# Altium schematic symbol library Schlib1.SchLib: 36 symbols
Pins are listed as number, name and electrical type; pins without a type are passive.

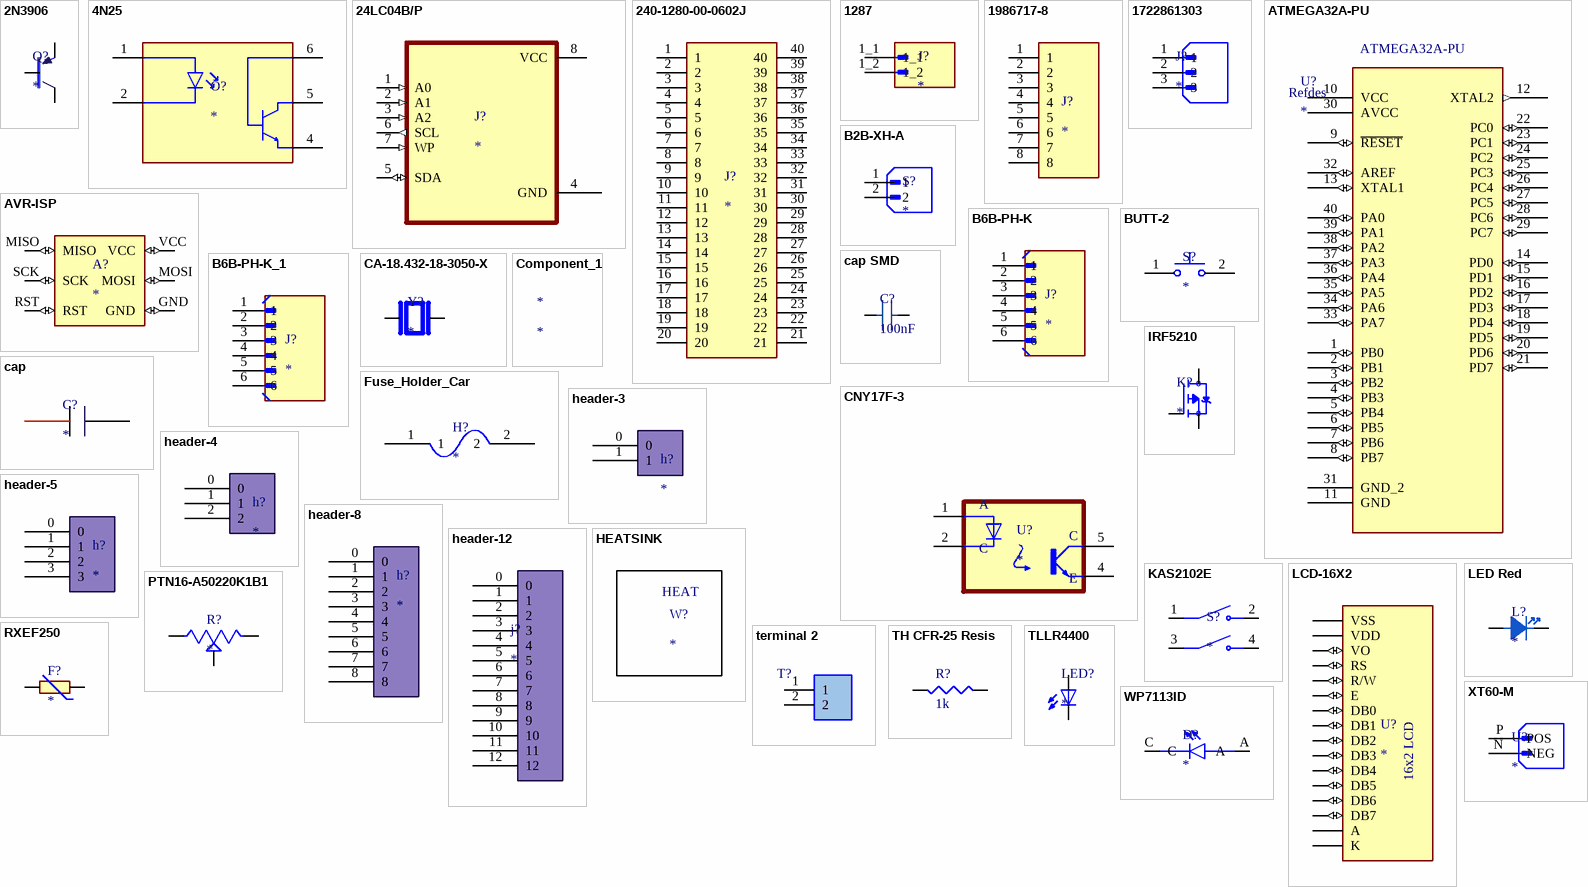
[diagram p0: symbols 2N3906 to XT60-M]

## 2N3906
designator Q?
BJT, TO-92, 40V, 200mA, PNP, 0.625W, 150Â°C; MF: Diotec Semiconductor; MP: 2N3906; SnapEDA_Link: https://www.snapeda.com/parts/2N3906/Diotec/view-part/?ref=snap; Package: TO-92 Diotec; Value: *; Check_prices: https://www.snapeda.com/parts/2N3906/Diotec/view-part/?ref=eda
footprint 2N3906
pins: 1 E, 2 B, 3 C

## 4N25
designator O?
Optoisolator, Analog, 6-Pin DIP, Transistor, w/Base Connection | Vishay / Small Signal & Opto Products (SSP) 4N25; MF: Vishay Semiconductor; SnapEDA_Link: https://www.snapeda.com/parts/4N25/Vishay/view-part/?ref=snap; Package: DIP-6 Everlight Electronics CO., LTD; Value: *; MP: 4N25; Check_prices: https://www.snapeda.com/parts/4N25/Vishay/view-part/?ref=eda
footprint DIP762W50P254L712H400Q6N
pins: 1 A, 2 K, 4 E, 5 C, 6 B

## 24LC04B/P
designator J?
4K, 512 X 8 2.5V SERIAL EEPROM | Microchip Technology Inc. 24LC04B/P; SnapEDA_Link: https://www.snapeda.com/parts/24LC04B/P/Microchip+Technology/view-part/?ref=snap; Package: DIP-8 Microchip; Value: *; MF: Microchip; MP: 24LC04B/P; Check_prices: https://www.snapeda.com/parts/24LC04B/P/Microchip+Technology/view-part/?ref=eda
footprint DIP787W46P254L927H533Q8
pins: 1 A0 (in), 2 A1 (in), 3 A2 (in), 4 GND, 5 SDA (io), 6 SCL (out), 7 WP (in), 8 VCC (power)

## 240-1280-00-0602J
designator J?
40 (2 x 20) Pos DIP, ZIF (ZIP), 0.6 (15.24mm) Row Spacing Socket Gold Connector; MF: 3M; MP: 240-1280-00-0602J; SnapEDA_Link: https://www.snapeda.com/parts/240-1280-00-0602J/3M+%2528TC%2529/view-part/?ref=snap; Package: NON STANDARD-40 3M; Value: *; Check_prices: https://www.snapeda.com/parts/240-1280-00-0602J/3M+%2528TC%2529/view-part/?ref=eda
footprint 3M_240-1280-00-0602J
pins: 1, 2, 3, 4, 5, 6, 7, 8, 9, 10, 11, 12, 13, 14, 15, 16, 17, 18, 19, 20, 21, 22, 23, 24, 25, 26, 27, 28, 29, 30, 31, 32, 33, 34, 35, 36, 37, 38, 39, 40

## 1287
designator J?
Male .250 Quick Fit Terminal; MF: Keystone Electronics Corp.; MP: 1287; SnapEDA_Link: https://www.snapeda.com/parts/1287/Keystone/view-part/?ref=snap; Package: None; Value: *; Check_prices: https://www.snapeda.com/parts/1287/Keystone/view-part/?ref=eda
footprint KEYSTONE_1287
pins: 1_1, 1_2

## 1986717-8
designator J?
8 Position Terminal Block Header, Male Pins, Unshrouded 0.138 (3.50mm) Vertical - Through Hole; Number_of_Positions: 8; MF: TE Connectivity; MP: 1986717-8; Centerline_Pitch: 3.5 mm[.138 in]; SnapEDA_Link: https://www.snapeda.com/parts/1986717-8/TE+Connectivity+AMP+Connectors/view-part/?ref=snap; Package: None; Value: *; Check_prices: https://www.snapeda.com/parts/1986717-8/TE+Connectivity+AMP+Connectors/view-part/?ref=eda
footprint TE_1986717-8
pins: 1, 2, 3, 4, 5, 6, 7, 8

## 1722861303
designator J?
MP: 1722861303; Availability: Unavailable; Value: *; Price: None; Package: None
footprint MOLEX_1722861303
pins: 1, 2, 3

## ATMEGA32A-PU
designator U?
AVR AVRÂ® ATmega Microcontroller IC 8-Bit 16MHz 32KB (16K x 16) FLASH 40-PDIP; MF: Microchip; MP: ATMEGA32A-PU; SnapEDA_Link: https://www.snapeda.com/parts/ATMEGA32A-PU/Microchip/view-part/?ref=snap; Package: PDIP-40 Microchip; Value: *; Check_prices: https://www.snapeda.com/parts/ATMEGA32A-PU/Microchip/view-part/?ref=eda
footprint 3M_240-1280-00-0602J
pins: 1 PB0 (io), 2 PB1 (io), 3 PB2 (io), 4 PB3 (io), 5 PB4 (io), 6 PB5 (io), 7 PB6 (io), 8 PB7 (io), 9 ~{RESET} (io), 10 VCC (power), 11 GND, 12 XTAL2 (out), 13 XTAL1 (io), 14 PD0 (io), 15 PD1 (io), 16 PD2 (io), 17 PD3 (io), 18 PD4 (io), 19 PD5 (io), 20 PD6 (io), 21 PD7 (io), 22 PC0 (io), 23 PC1 (io), 24 PC2 (io), 25 PC3 (io), 26 PC4 (io), 27 PC5 (io), 28 PC6 (io), 29 PC7 (io), 30 AVCC (power), 31 GND_2, 32 AREF (io), 33 PA7 (io), 34 PA6 (io), 35 PA5 (io), 36 PA4 (io), 37 PA3 (io), 38 PA2 (io), 39 PA1 (io), 40 PA0 (io)
text: Refdes

## AVR-ISP
designator A?
Emulators / Simulators AVR USB IN CIRCUIT EMUL/PRGMR ISP; MP: AVR-ISP; MF: Gravitech; SnapEDA_Link: https://www.snapeda.com/parts/AVR-ISP/Gravitech/view-part/4593377/?ref=snap; Availability: Unavailable; Price: None; Value: *; Package: None
footprint AVR-ISP
pins: GND (io), MISO (io), MOSI (io), RST (io), SCK (io), VCC (io)

## B2B-XH-A
designator S?
MF: {'manufacturer': u'JST Sales America Inc.'}; MP: B2B-XH-A; Package: None; Price: None; Value: *; Availability: Unavailable
footprint JST
pins: 1, 2

## B6B-PH-K
designator J?
Conn Shrouded Header (4 Sides) HDR 6 POS 2mm Solder ST Top Entry Thru-Hole Box; MF: JST Corporation; MP: B6B-PH-K; SnapEDA_Link: https://www.snapeda.com/parts/B6B-PH-K/JST/view-part/?ref=snap; Package: None; Value: *; Check_prices: https://www.snapeda.com/parts/B6B-PH-K/JST/view-part/?ref=eda
footprint JST_B6B-PH-K
pins: 1, 2, 3, 4, 5, 6

## B6B-PH-K_1
designator J?
Conn Shrouded Header (4 Sides) HDR 6 POS 2mm Solder ST Top Entry Thru-Hole Box; MF: JST Corporation; MP: B6B-PH-K; SnapEDA_Link: https://www.snapeda.com/parts/B6B-PH-K/JST/view-part/?ref=snap; Package: None; Value: *; Check_prices: https://www.snapeda.com/parts/B6B-PH-K/JST/view-part/?ref=eda
footprint JST_B6B-PH-K
pins: 1, 2, 3, 4, 5, 6

## BUTT-2
designator S?
Tactile Switches MINI PUSH BUTTON SWITCH 2-PIN QTY. 4; MF: Gravitech; MP: BUTT-2; SnapEDA_Link: https://www.snapeda.com/parts/BUTT-2/Gravitech/view-part/?ref=snap; Package: None; Value: *; Check_prices: https://www.snapeda.com/parts/BUTT-2/Gravitech/view-part/?ref=eda
footprint SW_BUTT-2
pins: 1, 2

## CA-18.432-18-3050-X
designator Y?
Quartz Crystal, HC-49/U-S Short Package; MF: Aker; MP: CA-18.432-18-3050-X; SnapEDA_Link: https://www.snapeda.com/parts/CA-18.432-18-3050-X/Aker/view-part/?ref=snap; Package: None; Value: *; Check_prices: https://www.snapeda.com/parts/CA-18.432-18-3050-X/Aker/view-part/?ref=eda
footprint XTAL_CA-18.432-18-3050-X
pins: 1, 2

## cap
designator C?
footprint cap
pins: 1, 2

## cap SMD
designator C?, comment 100nF
Manufacturer 1: KEMET; Manufacturer Part Number 1: C330C104J2H5TA91707301; Tolerance: 5%; Voltage Rating: 200V; Lead/Base Style: Straight; Supplier 1: Digi-Key; Stock 1: 1003; Pricing 1: 1=0.64000, 10=0.45000, 50=0.34000, 100=0.29620, 500=0.21940 (USD); RoHS: No; Mount: Through Hole; Case/Package: Radial; Min Operating Temperature: -55°C; Max Operating Temperature: 150°C; Features: High Temperature; Packaging: Cut Tape; Capacitance: 100nF; Ratings: AEC-Q200; ComponentLink1URL: https://api.kemet.com/component-edge/download/datasheet/C330C104J2H5TA91707301.pdf?src-supplier=Digi-Key; ComponentLink1Description: https://api.kemet.com/component-edge/download/datasheet/C330C104J2H5TA91707301.pdf?src-supplier=Digi-Key; Supplier Part Number 1: 399-14398-1-ND
footprint cap
pins: 1, 2

## CNY17F-3
designator U?
DC Input Phototransistor Output Optocoupler, Through Hole, 6-Pin PDIP | Siliconix / Vishay CNY17F-3; MF: Vishay Semiconductor; SnapEDA_Link: https://www.snapeda.com/parts/CNY17F-3/Vishay/view-part/?ref=snap; Package: DIP-6 Vishay; Value: *; MP: CNY17F-3; Check_prices: https://www.snapeda.com/parts/CNY17F-3/Vishay/view-part/?ref=eda
footprint DIP762W50P254L730H410Q6
pins: 1 A, 2 C, 4 E, 5 C`

## Component_1
designator *

## Fuse_Holder_Car
designator H?
Fuse Base Holder T5x20
footprint Fuse_Car
pins: 1, 2

## header-3
designator h?
footprint Male_header_3
pins: 0, 1

## header-4
designator h?
footprint Male_header_4
pins: 0, 1, 2

## header-5
designator h?
footprint Male_header_5
pins: 0, 1, 2, 3

## header-8
designator h?
footprint male header 8x2.54
pins: 0, 1, 2, 3, 4, 5, 6, 7, 8

## header-12
designator j?
footprint male header 8x2.54
pins: 0, 1, 2, 3, 4, 5, 6, 7, 8, 9, 10, 11, 12

## HEATSINK
designator W?
footprint HEATSINK
text: HEAT

## IRF5210
designator K?
P-Channel 100 V 38A (Tc) 3.1W (Ta), 170W (Tc) Through Hole TO-262; MF: Infineon Technologies; MP: IRF5210; SnapEDA_Link: https://www.snapeda.com/parts/IRF5210/Infineon/view-part/?ref=snap; Package: TO-220 Infineon; Value: *; Check_prices: https://www.snapeda.com/parts/IRF5210/Infineon/view-part/?ref=eda
footprint IRF5210
pins: 1 G, 2 D, 3 S

## KAS2102E
designator S?
Dip Switch SPST 2 Position Through Hole, Right Angle Slide (Standard) Actuator 25mA 24VDC; MF: E-Switch; MP: KAS2102E; SnapEDA_Link: https://www.snapeda.com/parts/KAS2102E/E-Switch/view-part/?ref=snap; Package: None; Value: *; Check_prices: https://www.snapeda.com/parts/KAS2102E/E-Switch/view-part/?ref=eda
footprint SW_KAS2102E
pins: 1 COM1, 2 NO1, 3 COM2, 4 NO2

## LCD-16X2
designator U?
Display Development Tools 16x2 Black on Green Char LCD w Backlight; MF: Gravitech; MP: LCD-16X2; SnapEDA_Link: https://www.snapeda.com/parts/LCD-16X2/Gravitech/view-part/?ref=snap; Package: None; Value: *; Check_prices: https://www.snapeda.com/parts/LCD-16X2/Gravitech/view-part/?ref=eda
footprint MODULE_LCD-16X2
pins: 1 VSS (power), 2 VDD (power), 3 VO (io), 4 RS (io), 5 R/W (io), 6 E (io), 7 DB0 (io), 8 DB1 (io), 9 DB2 (io), 10 DB3 (io), 11 DB4 (io), 12 DB5 (io), 13 DB6 (io), 14 DB7 (io), 15 A (power), 16 K (power)
text: 16x2 LCD

## LED Red
designator L?
footprint LED_Red
pins: 1 Anode, 2 Cathode

## PTN16-A50220K1B1
designator R?
16.5 mm, Horizontal, Linear, 50 kÎ©, Through Hole, Knurled Shaft Single Section Rotary Potentiometer; MF: Same Sky; MP: PTN16-A50220K1B1; SnapEDA_Link: https://www.snapeda.com/parts/PTN16-A50220K1B1/Same+Sky/view-part/?ref=snap; Package: Package; Value: *; Check_prices: https://www.snapeda.com/parts/PTN16-A50220K1B1/Same+Sky/view-part/?ref=eda
footprint POT_PTN16-A50220K1B1
pins: 1, 2, 3

## RXEF250
designator F?
Polymeric PTC Resettable Fuse 72V 2.5A Ih Through Hole Radial, Disc; MP: RXEF250; MF: Littelfuse Inc.; SnapEDA_Link: https://www.snapeda.com/parts/RXEF250/Littelfuse%20Inc./view-part/582232/?ref=snap; Price: None; Package: Radial Littelfuse; Availability: In Stock; Check_prices: https://www.snapeda.com/parts/RXEF250/Littelfuse%20Inc./view-part/582232/?ref=eda; Value: *
footprint FUSRB1015W80L2080T300H2450 - duplicate
pins: 1, 2

## terminal 2
designator T?
Manufacturer: Samtec; Manufacturer Part Number: FTS-102-01-F-S; Manufacturer Series: FTS; Connector Type: BOARD CONNECTOR; Option: General Purpose; Additional Feature: Low Profile; Filter Feature: No; Number of Rows Loaded: 1; Number of Contacts: 2; Supplier: Digikey; Supplier Part Number: SAM15176-ND; RoHS: Yes; Category: Connectors; Stock: 1204; Pricing: 1=0.68, 10=0.592, 100=0.4878, 500=0.4242, 1000=0.34996, 5000=0.30754, 10000=0.28634 (USD); Mounting Technology: Board; Contact Material: Bronze; Contact Finish - Mating: GOLD (3) OVER NICKEL (50); Contact Finish - Termination: Matte Tin (Sn) - with Nickel (Ni) barrier; JESD-609 Code: e3; Contact Gender: Male; Mixed Contacts: No; Mounting Style: STRAIGHT; Termination: Solder; Terminal Pitch: 1.27mm; Flammability Rating: UL94 V-0; DIN Conformance: No; IEC Conformance: No; MIL Conformance: No; Reach SVHC Compliant: Yes; RoHS Compliant: Yes; ComponentLink1URL: https://datasheet.ciiva.com:443/pdfs/VipMasterIC/IC/SAMI/SAMI-S-A0001504673/SAMI-S-A0001504673-1.pdf?src-supplier=IHS+Markit; ComponentLink1Description: https://datasheet.ciiva.com:443/pdfs/VipMasterIC/IC/SAMI/SAMI-S-A0001504673/SAMI-S-A0001504673-1.pdf?src-supplier=IHS+Markit; ComponentLink2URL: http://www.samtec.com/documents/webfiles/pdf/FTS.pdf?src-supplier=Avnet; ComponentLink2Description: http://www.samtec.com/documents/webfiles/pdf/FTS.pdf?src-supplier=Avnet; LCSC Part Number: C6045317
footprint CONN2_0393800102_524X492_MOL
pins: 1, 2

## TH CFR-25 Resis
designator R?, comment 1k
CFR Series 0.25 W 1 KOhm ±5 % -350 to 500 ppm/°C Carbon Film Resistor; Manufacturer 1: Yageo; Manufacturer Part Number 1: CFR-25JB-52-1K; Tolerance: 5%; Resistance: 1kR; Max Power Dissipation: 250mW; Parameter Name 1: Bulk; Supplier 1: Digi-Key; Stock 1: 194074; Pricing 1: 1=0.10000, 25=0.04680, 50=0.03640, 100=0.02600, 250=0.02028, 500=0.01612, 750=0.01379, 1000=0.01144, 2000=0.00988 (USD); RoHS: Yes; Case/Package: Axial; Min Operating Temperature: -55°C; Max Operating Temperature: 155°C; Temperature Coefficient: 500ppm/°C; Resistor Type: Carbon Film; Number of Terminations: 2; Package Quantity: 200; Power Rating: 250mW; Length: 0.248inch; Lead Free: Lead Free; ComponentLink1URL: http://www.yageo.com/NewPortal/yageodocoutput?fileName=/pdf/throughhole/Yageo_LR_CFR_2013.pdf&src-supplier=Digi-Key; ComponentLink1Description: http://www.yageo.com/NewPortal/yageodocoutput?fileName=/pdf/throughhole/Yageo_LR_CFR_2013.pdf&src-supplier=Digi-Key; ComponentLink2URL: http://www.yageo.com/documents/recent/General%20Type_CFR.pdf?src-supplier=Future+Electronics; ComponentLink2Description: http://www.yageo.com/documents/recent/General%20Type_CFR.pdf?src-supplier=Future+Electronics; Supplier Part Number 1: 1.0KQBK-ND
footprint R_THT_CFR-25
pins: 1, 2

## TLLR4400
designator LED?
Red 619nm LED Indication - Discrete 1.9V Radial; MF: Vishay; MP: TLLR4400; SnapEDA_Link: https://www.snapeda.com/parts/TLLR4400/Vishay+Semiconductor+Opto+Division/view-part/?ref=snap; Package: None; Value: *; Check_prices: https://www.snapeda.com/parts/TLLR4400/Vishay+Semiconductor+Opto+Division/view-part/?ref=eda
footprint LED3MM
pins: A, K C

## WP7113ID
designator D?
Red 617nm LED Indication - Discrete 2V Radial; MP: WP7113ID; MF: Kingbright; Price: None; Package: Radial Kingbright; Check_prices: https://www.snapeda.com/parts/WP7113ID/Kingbright/view-part/?ref=eda; Purchase-URL: https://pricing.snapeda.com/search/part/WP7113ID/?ref=eda; Availability: In Stock; Value: *; SnapEDA_Link: https://www.snapeda.com/parts/WP7113ID/Kingbright/view-part/?ref=snap
footprint LED_WP7113ID
pins: A, C

## XT60-M
designator U?
Plug; DC supply; XT60; male; PIN: 2; for cable; soldered; 30A; 500V; MF: AMASS; MP: XT60-M; SnapEDA_Link: https://www.snapeda.com/parts/XT60-M/AMASS/view-part/?ref=snap; Package: Package; Value: *; Check_prices: https://www.snapeda.com/parts/XT60-M/AMASS/view-part/?ref=eda
footprint AMASS_XT60-M
pins: N NEG, P POS